# Altium schematic symbol library ARM.SchLib: 1 symbol
Pins are listed as number, name and electrical type; pins without a type are passive.

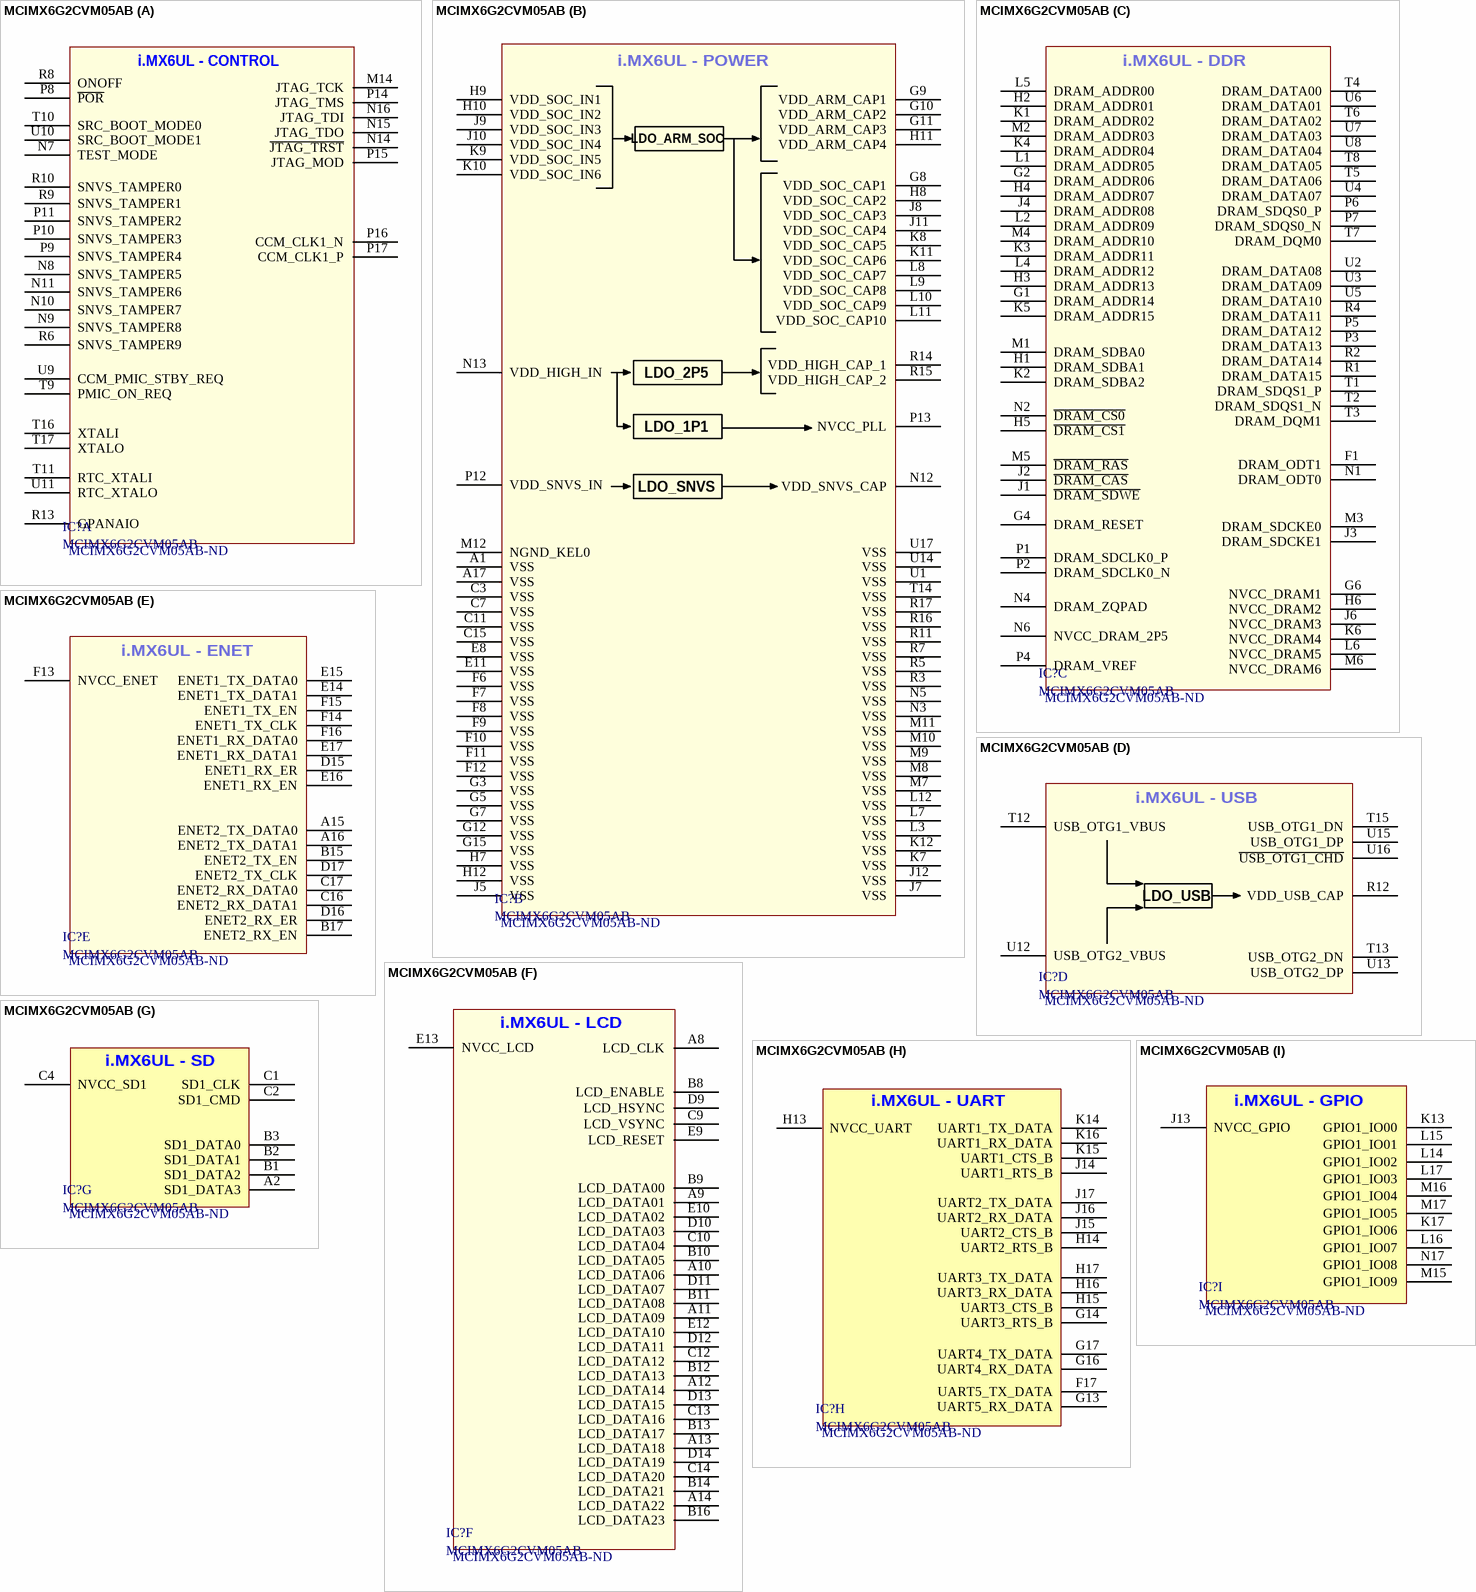
[diagram p0: symbol MCIMX6G2CVM05AB]

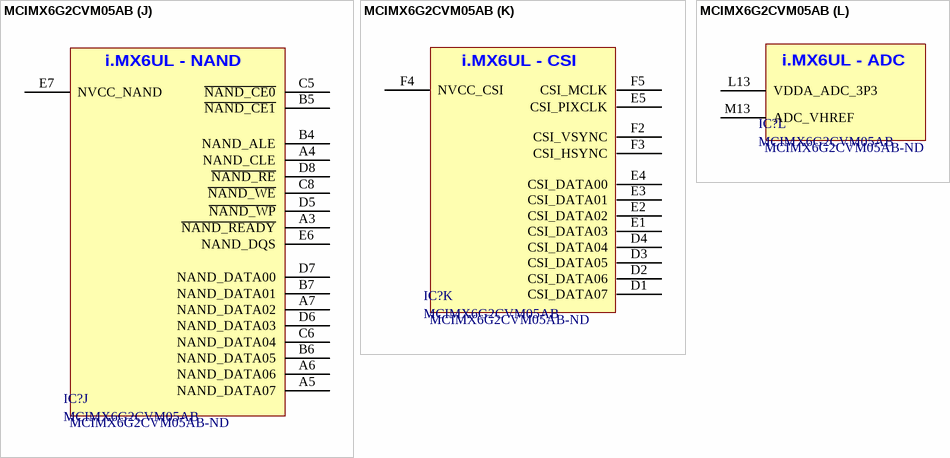
[diagram p1: symbol MCIMX6G2CVM05AB]

## MCIMX6G2CVM05AB
designator IC?  Supplier Part Number 1: MCIMX6G2CVM05AB-ND
NXP - MCIMX6G2CVM05AB - MPU, 32BIT, 528MHZ, MAPBGA-289; Manufacturer: NXP Freescale; Supplier 1: Digi-Key; Manufacturer Part Number: MCIMX6G2CVM05AB; Stock 1: 0; MANF_P#: MCIMX6G2CVM05AB
footprint BGA80_289_S14 (BGA, 289-Leads, Body 14.00x14.00mmx1.20mm, Pitch 0.80mm)
part A pins: M14 JTAG_TCK, N7 TEST_MODE, N8 SNVS_TAMPER5, N9 SNVS_TAMPER8, N10 SNVS_TAMPER7, N11 SNVS_TAMPER6, N14 ~{JTAG_TRST}, N15 JTAG_TDO, N16 JTAG_TDI, P8 ~{POR}, P9 SNVS_TAMPER4, P10 SNVS_TAMPER3, P11 SNVS_TAMPER2, P14 JTAG_TMS, P15 JTAG_MOD, P16 CCM_CLK1_N, P17 CCM_CLK1_P, R6 SNVS_TAMPER9, R8 ONOFF, R9 SNVS_TAMPER1, R10 SNVS_TAMPER0, R13 GPANAIO (power), T9 PMIC_ON_REQ, T10 SRC_BOOT_MODE0, T11 RTC_XTALI, T16 XTALI, T17 XTALO, U9 CCM_PMIC_STBY_REQ, U10 SRC_BOOT_MODE1, U11 RTC_XTALO
part B pins: A1 VSS (power), A17 VSS (power), C3 VSS (power), C7 VSS (power), C11 VSS (power), C15 VSS (power), E8 VSS (power), E11 VSS (power), F6 VSS (power), F7 VSS (power), F8 VSS (power), F9 VSS (power), F10 VSS (power), F11 VSS (power), F12 VSS (power), G3 VSS (power), G5 VSS (power), G7 VSS (power), G8 VDD_SOC_CAP1 (power), G9 VDD_ARM_CAP1 (power), G10 VDD_ARM_CAP2 (power), G11 VDD_ARM_CAP3 (power), G12 VSS (power), G15 VSS (power), H7 VSS (power), H8 VDD_SOC_CAP2 (power), H9 VDD_SOC_IN1 (power), H10 VDD_SOC_IN2 (power), H11 VDD_ARM_CAP4 (power), H12 VSS (power), J5 VSS (power), J7 VSS (power), J8 VDD_SOC_CAP3 (power), J9 VDD_SOC_IN3 (power), J10 VDD_SOC_IN4 (power), J11 VDD_SOC_CAP4 (power), J12 VSS (power), K7 VSS (power), K8 VDD_SOC_CAP5 (power), K9 VDD_SOC_IN5 (power), K10 VDD_SOC_IN6 (power), K11 VDD_SOC_CAP6 (power), K12 VSS (power), L3 VSS (power), L7 VSS (power), L8 VDD_SOC_CAP7 (power), L9 VDD_SOC_CAP8 (power), L10 VDD_SOC_CAP9 (power), L11 VDD_SOC_CAP10 (power), L12 VSS (power), M7 VSS (power), M8 VSS (power), M9 VSS (power), M10 VSS (power), M11 VSS (power), M12 NGND_KEL0 (power), N3 VSS (power), N5 VSS (power), N12 VDD_SNVS_CAP (power), N13 VDD_HIGH_IN (power), P12 VDD_SNVS_IN (power), P13 NVCC_PLL (power), R3 VSS (power), R5 VSS (power), R7 VSS (power), R11 VSS (power), R14 VDD_HIGH_CAP_1 (power), R15 VDD_HIGH_CAP_2 (power), R16 VSS (power), R17 VSS (power), T14 VSS (power), U1 VSS (power), U14 VSS (power), U17 VSS (power)
part C pins: F1 DRAM_ODT1, G1 DRAM_ADDR14, G2 DRAM_ADDR06, G4 DRAM_RESET, G6 NVCC_DRAM1, H1 DRAM_SDBA1, H2 DRAM_ADDR01, H3 DRAM_ADDR13, H4 DRAM_ADDR07, H5 ~{DRAM_CS1}, H6 NVCC_DRAM2, J1 ~{DRAM_SDWE}, J2 ~{DRAM_CAS}, J3 DRAM_SDCKE1, J4 DRAM_ADDR08, J6 NVCC_DRAM3, K1 DRAM_ADDR02, K2 DRAM_SDBA2, K3 DRAM_ADDR11, K4 DRAM_ADDR04, K5 DRAM_ADDR15, K6 NVCC_DRAM4, L1 DRAM_ADDR05, L2 DRAM_ADDR09, L4 DRAM_ADDR12, L5 DRAM_ADDR00, L6 NVCC_DRAM5, M1 DRAM_SDBA0, M2 DRAM_ADDR03, M3 DRAM_SDCKE0, M4 DRAM_ADDR10, M5 ~{DRAM_RAS}, M6 NVCC_DRAM6, N1 DRAM_ODT0, N2 ~{DRAM_CS0}, N4 DRAM_ZQPAD, N6 NVCC_DRAM_2P5, P1 DRAM_SDCLK0_P, P2 DRAM_SDCLK0_N, P3 DRAM_DATA13, P4 DRAM_VREF, P5 DRAM_DATA12, P6 DRAM_SDQS0_P, P7 DRAM_SDQS0_N, R1 DRAM_DATA15, R2 DRAM_DATA14, R4 DRAM_DATA11, T1 DRAM_SDQS1_P, T2 DRAM_SDQS1_N, T3 DRAM_DQM1, T4 DRAM_DATA00, T5 DRAM_DATA06, T6 DRAM_DATA02, T7 DRAM_DQM0, T8 DRAM_DATA05, U2 DRAM_DATA08, U3 DRAM_DATA09, U4 DRAM_DATA07, U5 DRAM_DATA10, U6 DRAM_DATA01, U7 DRAM_DATA03, U8 DRAM_DATA04
part D pins: R12 VDD_USB_CAP (power), T12 USB_OTG1_VBUS, T13 USB_OTG2_DN, T15 USB_OTG1_DN, U12 USB_OTG2_VBUS, U13 USB_OTG2_DP, U15 USB_OTG1_DP, U16 ~{USB_OTG1_CHD}
part E pins: A15 ENET2_TX_DATA0, A16 ENET2_TX_DATA1, B15 ENET2_TX_EN, B17 ENET2_RX_EN, C16 ENET2_RX_DATA1, C17 ENET2_RX_DATA0, D15 ENET1_RX_ER, D16 ENET2_RX_ER, D17 ENET2_TX_CLK, E14 ENET1_TX_DATA1, E15 ENET1_TX_DATA0, E16 ENET1_RX_EN, E17 ENET1_RX_DATA1, F13 NVCC_ENET (power), F14 ENET1_TX_CLK, F15 ENET1_TX_EN, F16 ENET1_RX_DATA0
part F pins: A8 LCD_CLK, A9 LCD_DATA01, A10 LCD_DATA06, A11 LCD_DATA09, A12 LCD_DATA14, A13 LCD_DATA18, A14 LCD_DATA22, B8 LCD_ENABLE, B9 LCD_DATA00, B10 LCD_DATA05, B11 LCD_DATA08, B12 LCD_DATA13, B13 LCD_DATA17, B14 LCD_DATA21, B16 LCD_DATA23, C9 LCD_VSYNC, C10 LCD_DATA04, C12 LCD_DATA12, C13 LCD_DATA16, C14 LCD_DATA20, D9 LCD_HSYNC, D10 LCD_DATA03, D11 LCD_DATA07, D12 LCD_DATA11, D13 LCD_DATA15, D14 LCD_DATA19, E9 LCD_RESET, E10 LCD_DATA02, E12 LCD_DATA10, E13 NVCC_LCD (power)
part G pins: A2 SD1_DATA3, B1 SD1_DATA2, B2 SD1_DATA1, B3 SD1_DATA0, C1 SD1_CLK, C2 SD1_CMD, C4 NVCC_SD1 (power)
part H pins: F17 UART5_TX_DATA, G13 UART5_RX_DATA, G14 UART3_RTS_B, G16 UART4_RX_DATA, G17 UART4_TX_DATA, H13 NVCC_UART (power), H14 UART2_RTS_B, H15 UART3_CTS_B, H16 UART3_RX_DATA, H17 UART3_TX_DATA, J14 UART1_RTS_B, J15 UART2_CTS_B, J16 UART2_RX_DATA, J17 UART2_TX_DATA, K14 UART1_TX_DATA, K15 UART1_CTS_B, K16 UART1_RX_DATA
part I pins: J13 NVCC_GPIO (power), K13 GPIO1_IO00, K17 GPIO1_IO06, L14 GPIO1_IO02, L15 GPIO1_IO01, L16 GPIO1_IO07, L17 GPIO1_IO03, M15 GPIO1_IO09, M16 GPIO1_IO04, M17 GPIO1_IO05, N17 GPIO1_IO08
part J pins: A3 ~{NAND_READY}, A4 NAND_CLE, A5 NAND_DATA07, A6 NAND_DATA06, A7 NAND_DATA02, B4 NAND_ALE, B5 ~{NAND_CE1}, B6 NAND_DATA05, B7 NAND_DATA01, C5 ~{NAND_CE0}, C6 NAND_DATA04, C8 ~{NAND_WE}, D5 ~{NAND_WP}, D6 NAND_DATA03, D7 NAND_DATA00, D8 ~{NAND_RE}, E6 NAND_DQS, E7 NVCC_NAND (power)
part K pins: D1 CSI_DATA07, D2 CSI_DATA06, D3 CSI_DATA05, D4 CSI_DATA04, E1 CSI_DATA03, E2 CSI_DATA02, E3 CSI_DATA01, E4 CSI_DATA00, E5 CSI_PIXCLK, F2 CSI_VSYNC, F3 CSI_HSYNC, F4 NVCC_CSI (power), F5 CSI_MCLK
part L pins: L13 VDDA_ADC_3P3 (power), M13 ADC_VHREF (power)
part A text: i.MX6UL - CONTROL
part B text: i.MX6UL - POWER; LDO_ARM_SOC; LDO_2P5; LDO_1P1; LDO_SNVS
part C text: i.MX6UL - DDR
part D text: i.MX6UL - USB; LDO_USB
part E text: i.MX6UL - ENET
part F text: i.MX6UL - LCD
part G text: i.MX6UL - SD
part H text: i.MX6UL - UART
part I text: i.MX6UL - GPIO
part J text: i.MX6UL - NAND
part K text: i.MX6UL - CSI
part L text: i.MX6UL - ADC